# EAGLE library part MICROSIM-DETECT (library borkedlabs-connectors)
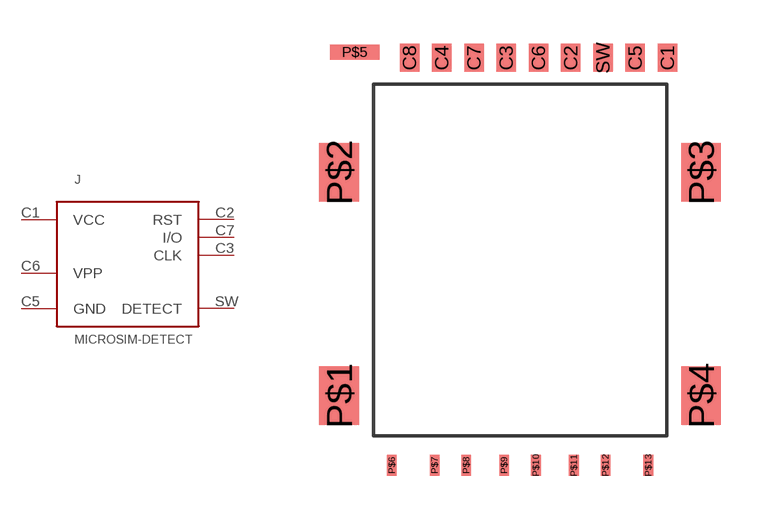
[diagram p3: symbol with the pads of 2108431-4; footprint 2108431-4]

Designator prefix J

## MICROSIM-DETECT2108431-4  [2108431-4]
C1  VCC
C2  RST
C3  CLK
C5  GND
C6  VPP
C7  I/O
SW  DETECT

## Footprint 2108431-4 (pad centres in mm)
smd 0.67 x 0.95: C1 5.03,3.905; C2 1.73,3.905; C3 -0.47,3.905; C4 -2.67,3.905; C5 3.93,3.905; C6 0.63,3.905; C7 -1.57,3.905; C8 -3.77,3.905; SW 2.83,3.905
smd 1.35 x 2: P$1 -6.175,-7.62; P$2 -6.175,0; P$3 6.175,0; P$4 6.175,-7.62
smd 1.7 x 0.5: P$5 -5.64,4.1
smd 0.33 x 0.7: P$6 -4.375,-10; P$7 -2.915,-10; P$8 -1.835,-10; P$9 -0.543,-10; P$10 0.54,-10; P$11 1.835,-10; P$12 2.915,-10; P$13 4.375,-10